# EAGLE library part NAND256 (library SparkFun-DigitalIC)
NAND flash
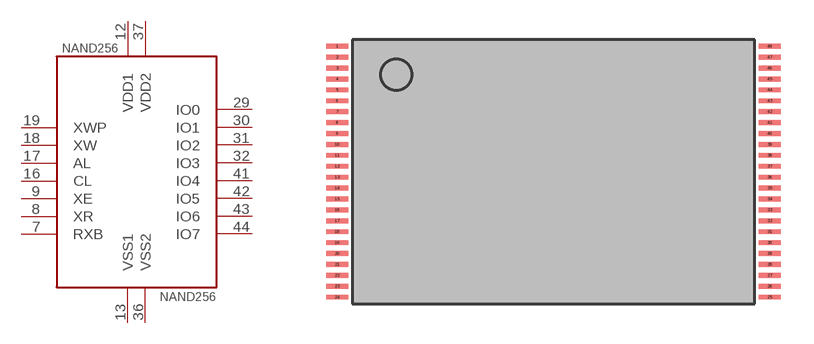
[diagram p42: symbol with the pads of TSOP48; footprint TSOP48]

Designator prefix -

## NAND256  [TSOP48]
7  RXB
8  XR
9  XE
12  VDD1
13  VSS1
16  CL
17  AL
18  XW
19  XWP
29  IO0
30  IO1
31  IO2
32  IO3
36  VSS2
37  VDD2
41  IO4
42  IO5
43  IO6
44  IO7

## Footprint TSOP48 (pad centres in mm)
smd 1 x 0.22: 1 -0.7,11.8; 2 -0.7,11.3; 3 -0.7,10.8; 4 -0.7,10.3; 5 -0.7,9.8; 6 -0.7,9.3; 7 -0.7,8.8; 8 -0.7,8.3; 9 -0.7,7.8; 10 -0.7,7.3; 11 -0.7,6.8; 12 -0.7,6.3; 13 -0.7,5.8; 14 -0.7,5.3; 15 -0.7,4.8; 16 -0.7,4.3; 17 -0.7,3.8; 18 -0.7,3.3; 19 -0.7,2.8; 20 -0.7,2.3; 21 -0.7,1.8; 22 -0.7,1.3; 23 -0.7,0.8; 24 -0.7,0.3; 25 19.1,0.3; 26 19.1,0.8; 27 19.1,1.3; 28 19.1,1.8; 29 19.1,2.3; 30 19.1,2.8; 31 19.1,3.3; 32 19.1,3.8; 33 19.1,4.3; 34 19.1,4.8; 35 19.1,5.3; 36 19.1,5.8; 37 19.1,6.3; 38 19.1,6.8; 39 19.1,7.3; 40 19.1,7.8; 41 19.1,8.3; 42 19.1,8.8; 43 19.1,9.3; 44 19.1,9.8; 45 19.1,10.3; 46 19.1,10.8; 47 19.1,11.3; 48 19.1,11.8